# EAGLE library part TPANAV (library jason-test)
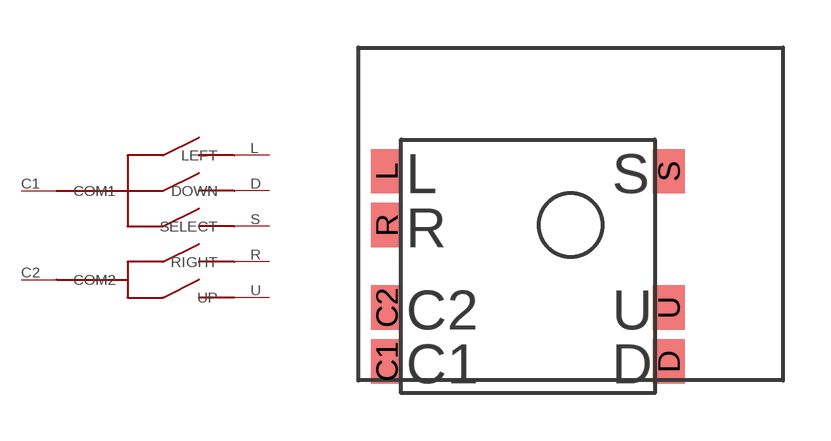
[diagram p10: symbol with the pads of TPANAV; footprint TPANAV]

Designator prefix -

## TPANAV  [TPANAV]
C1  COM1
C2  COM2
D  DOWN
L  LEFT
R  RIGHT
S  SELECT
U  UP

## Footprint TPANAV (pad centres in mm)
smd 1 x 1.4: C1 -5.8,-4.3; C2 -5.8,-2.6; D 3.1,-4.3; L -5.8,1.7; R -5.8,0; S 3.1,1.7; U 3.1,-2.6